# Altium schematic symbol library WA-SMSI_M3 Thread Internal.SchLib: 34 symbols
Pins are listed as number, name and electrical type; pins without a type are passive.

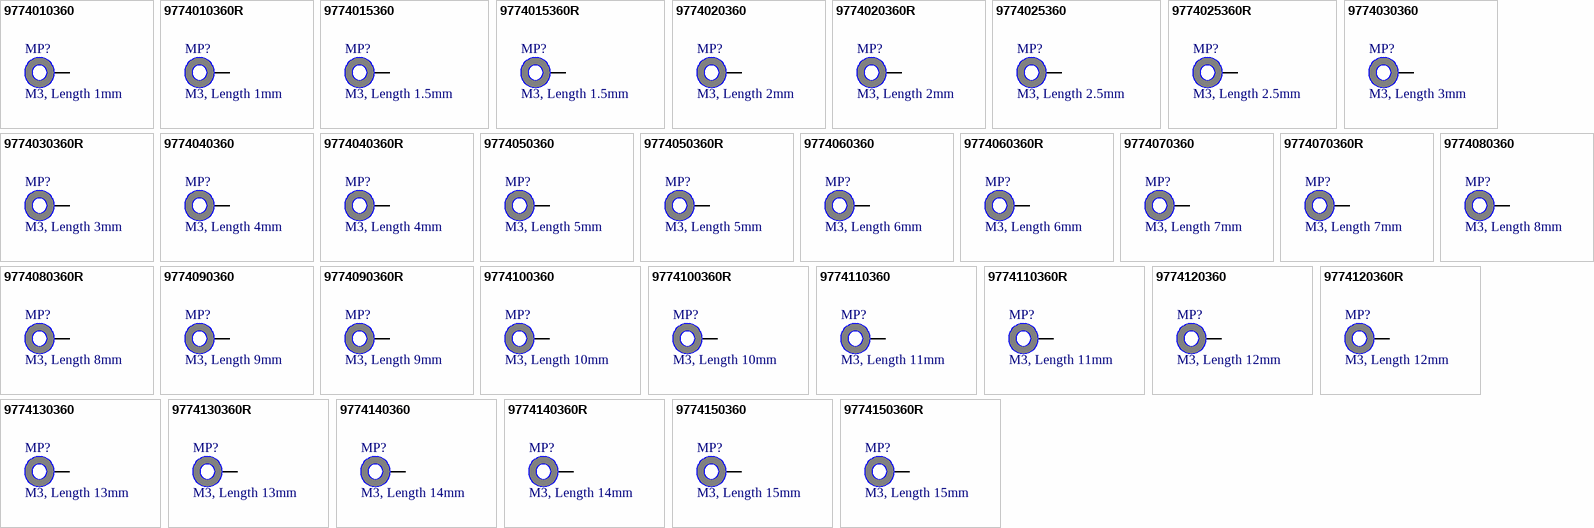
[diagram p0: symbols 9774010360 to 9774150360R]

## 9774010360
designator MP?, comment M3, Length 1mm
WA-SMSI SMT Steel Spacer, M3 Thread Internal, Length 1mm; PartNumber: 9774010360; InnerDiameter: 4.2mm; OuterDiameter: 6mm; PublishedDate: Dec. 2016; Publisher: Wurth Elektronik; ComponentLink1Description: Manufacturer; ComponentLink1URL: http://www.we-online.de; ComponentLink2Description: Datasheet; ComponentLink2URL: http://katalog.we-online.de/em/datasheet/9774010360.pdf; Length: 1mm; Thread: M3; Packaging: Bulk
footprint 9774010360
pins: 1

## 9774010360R
designator MP?, comment M3, Length 1mm
WA-SMSI SMT Steel Spacer, M3 Thread Internal, Length 1mm; PartNumber: 9774010360R; InnerDiameter: 4.2mm; OuterDiameter: 6mm; PublishedDate: Dec. 2016; Publisher: Wurth Elektronik; ComponentLink1Description: Manufacturer; ComponentLink1URL: http://www.we-online.de; ComponentLink2Description: Datasheet; ComponentLink2URL: http://katalog.we-online.de/em/datasheet/9774010360R.pdf; Length: 1mm; Thread: M3; Packaging: Tape and Reel
footprint 9774010360
pins: 1

## 9774015360
designator MP?, comment M3, Length 1.5mm
WA-SMSI SMT Steel Spacer, M3 Thread Internal, Length 1.5mm; PartNumber: 9774015360; InnerDiameter: 4.2mm; OuterDiameter: 6mm; PublishedDate: Dec. 2016; Publisher: Wurth Elektronik; ComponentLink1Description: Manufacturer; ComponentLink1URL: http://www.we-online.de; ComponentLink2Description: Datasheet; ComponentLink2URL: http://katalog.we-online.de/em/datasheet/9774015360.pdf; Length: 1.5mm; Thread: M3; Packaging: Bulk
footprint 9774015360
pins: 1

## 9774015360R
designator MP?, comment M3, Length 1.5mm
WA-SMSI SMT Steel Spacer, M3 Thread Internal, Length 1.5mm; PartNumber: 9774015360R; InnerDiameter: 4.2mm; OuterDiameter: 6mm; PublishedDate: Dec. 2016; Publisher: Wurth Elektronik; ComponentLink1Description: Manufacturer; ComponentLink1URL: http://www.we-online.de; ComponentLink2Description: Datasheet; ComponentLink2URL: http://katalog.we-online.de/em/datasheet/9774015360R.pdf; Length: 1.5mm; Thread: M3; Packaging: Tape and Reel
footprint 9774015360
pins: 1

## 9774020360
designator MP?, comment M3, Length 2mm
WA-SMSI SMT Steel Spacer, M3 Thread Internal, Length 2mm; PartNumber: 9774020360; InnerDiameter: 4.2mm; OuterDiameter: 6mm; PublishedDate: Dec. 2016; Publisher: Wurth Elektronik; ComponentLink1Description: Manufacturer; ComponentLink1URL: http://www.we-online.de; ComponentLink2Description: Datasheet; ComponentLink2URL: http://katalog.we-online.de/em/datasheet/9774020360.pdf; Length: 2mm; Thread: M3; Packaging: Bulk
footprint 9774020360
pins: 1

## 9774020360R
designator MP?, comment M3, Length 2mm
WA-SMSI SMT Steel Spacer, M3 Thread Internal, Length 2mm; PartNumber: 9774020360R; InnerDiameter: 4.2mm; OuterDiameter: 6mm; PublishedDate: Dec. 2016; Publisher: Wurth Elektronik; ComponentLink1Description: Manufacturer; ComponentLink1URL: http://www.we-online.de; ComponentLink2Description: Datasheet; ComponentLink2URL: http://katalog.we-online.de/em/datasheet/9774020360R.pdf; Length: 2mm; Thread: M3; Packaging: Tape and Reel
footprint 9774020360
pins: 1

## 9774025360
designator MP?, comment M3, Length 2.5mm
WA-SMSI SMT Steel Spacer, M3 Thread Internal, Length 2.5mm; PartNumber: 9774025360; InnerDiameter: 4.2mm; OuterDiameter: 6mm; PublishedDate: Dec. 2016; Publisher: Wurth Elektronik; ComponentLink1Description: Manufacturer; ComponentLink1URL: http://www.we-online.de; ComponentLink2Description: Datasheet; ComponentLink2URL: http://katalog.we-online.de/em/datasheet/9774025360.pdf; Length: 2.5mm; Thread: M3; Packaging: Bulk
footprint 9774025360
pins: 1

## 9774025360R
designator MP?, comment M3, Length 2.5mm
WA-SMSI SMT Steel Spacer, M3 Thread Internal, Length 2.5mm; PartNumber: 9774025360R; InnerDiameter: 4.2mm; OuterDiameter: 6mm; PublishedDate: Dec. 2016; Publisher: Wurth Elektronik; ComponentLink1Description: Manufacturer; ComponentLink1URL: http://www.we-online.de; ComponentLink2Description: Datasheet; ComponentLink2URL: http://katalog.we-online.de/em/datasheet/9774025360R.pdf; Length: 2.5mm; Thread: M3; Packaging: Tape and Reel
footprint 9774025360
pins: 1

## 9774030360
designator MP?, comment M3, Length 3mm
WA-SMSI SMT Steel Spacer, M3 Thread Internal, Length 3mm; PartNumber: 9774030360; InnerDiameter: 4.2mm; OuterDiameter: 6mm; PublishedDate: Dec. 2016; Publisher: Wurth Elektronik; ComponentLink1Description: Manufacturer; ComponentLink1URL: http://www.we-online.de; ComponentLink2Description: Datasheet; ComponentLink2URL: http://katalog.we-online.de/em/datasheet/9774030360.pdf; Length: 3mm; Thread: M3; Packaging: Bulk
footprint 9774030360
pins: 1

## 9774030360R
designator MP?, comment M3, Length 3mm
WA-SMSI SMT Steel Spacer, M3 Thread Internal, Length 3mm; PartNumber: 9774030360R; InnerDiameter: 4.2mm; OuterDiameter: 6mm; PublishedDate: Dec. 2016; Publisher: Wurth Elektronik; ComponentLink1Description: Manufacturer; ComponentLink1URL: http://www.we-online.de; ComponentLink2Description: Datasheet; ComponentLink2URL: http://katalog.we-online.de/em/datasheet/9774030360R.pdf; Length: 3mm; Thread: M3; Packaging: Tape and Reel
footprint 9774030360
pins: 1

## 9774040360
designator MP?, comment M3, Length 4mm
WA-SMSI SMT Steel Spacer, M3 Thread Internal, Length 4mm; PartNumber: 9774040360; InnerDiameter: 4.2mm; OuterDiameter: 6mm; PublishedDate: Dec. 2016; Publisher: Wurth Elektronik; ComponentLink1Description: Manufacturer; ComponentLink1URL: http://www.we-online.de; ComponentLink2Description: Datasheet; ComponentLink2URL: http://katalog.we-online.de/em/datasheet/9774040360.pdf; Length: 4mm; Thread: M3; Packaging: Bulk
footprint 9774040360
pins: 1

## 9774040360R
designator MP?, comment M3, Length 4mm
WA-SMSI SMT Steel Spacer, M3 Thread Internal, Length 4mm; PartNumber: 9774040360R; InnerDiameter: 4.2mm; OuterDiameter: 6mm; PublishedDate: Dec. 2016; Publisher: Wurth Elektronik; ComponentLink1Description: Manufacturer; ComponentLink1URL: http://www.we-online.de; ComponentLink2Description: Datasheet; ComponentLink2URL: http://katalog.we-online.de/em/datasheet/9774040360R.pdf; Length: 4mm; Thread: M3; Packaging: Tape and Reel
footprint 9774040360
pins: 1

## 9774050360
designator MP?, comment M3, Length 5mm
WA-SMSI SMT Steel Spacer, M3 Thread Internal, Length 5mm; PartNumber: 9774050360; InnerDiameter: 4.2mm; OuterDiameter: 6mm; PublishedDate: Dec. 2016; Publisher: Wurth Elektronik; ComponentLink1Description: Manufacturer; ComponentLink1URL: http://www.we-online.de; ComponentLink2Description: Datasheet; ComponentLink2URL: http://katalog.we-online.de/em/datasheet/9774050360.pdf; Length: 5mm; Thread: M3; Packaging: Bulk
footprint 9774050360
pins: 1

## 9774050360R
designator MP?, comment M3, Length 5mm
WA-SMSI SMT Steel Spacer, M3 Thread Internal, Length 5mm; PartNumber: 9774050360R; InnerDiameter: 4.2mm; OuterDiameter: 6mm; PublishedDate: Dec. 2016; Publisher: Wurth Elektronik; ComponentLink1Description: Manufacturer; ComponentLink1URL: http://www.we-online.de; ComponentLink2Description: Datasheet; ComponentLink2URL: http://katalog.we-online.de/em/datasheet/9774050360R.pdf; Length: 5mm; Thread: M3; Packaging: Tape and Reel
footprint 9774050360
pins: 1

## 9774060360
designator MP?, comment M3, Length 6mm
WA-SMSI SMT Steel Spacer, M3 Thread Internal, Length 6mm; PartNumber: 9774060360; InnerDiameter: 4.2mm; PublishedDate: Dec. 2016; Publisher: Wurth Elektronik; ComponentLink1Description: Manufacturer; ComponentLink1URL: http://www.we-online.de; ComponentLink2Description: Datasheet; ComponentLink2URL: http://katalog.we-online.de/em/datasheet/9774060360.pdf; Length: 6mm; OuterDiameter: 6mm; Thread: M3; Packaging: Bulk
footprint 9774060360
pins: 1

## 9774060360R
designator MP?, comment M3, Length 6mm
WA-SMSI SMT Steel Spacer, M3 Thread Internal, Length 6mm; PartNumber: 9774060360R; InnerDiameter: 4.2mm; PublishedDate: Dec. 2016; Publisher: Wurth Elektronik; ComponentLink1Description: Manufacturer; ComponentLink1URL: http://www.we-online.de; ComponentLink2Description: Datasheet; ComponentLink2URL: http://katalog.we-online.de/em/datasheet/9774060360R.pdf; Length: 6mm; OuterDiameter: 6mm; Thread: M3; Packaging: Tape and Reel
footprint 9774060360
pins: 1

## 9774070360
designator MP?, comment M3, Length 7mm
WA-SMSI SMT Steel Spacer, M3 Thread Internal, Length 7mm; PartNumber: 9774070360; InnerDiameter: 4.2mm; OuterDiameter: 6mm; PublishedDate: Dec. 2016; Publisher: Wurth Elektronik; ComponentLink1Description: Manufacturer; ComponentLink1URL: http://www.we-online.de; ComponentLink2Description: Datasheet; ComponentLink2URL: http://katalog.we-online.de/em/datasheet/9774070360.pdf; Length: 7mm; Thread: M3; Packaging: Bulk
footprint 9774070360
pins: 1

## 9774070360R
designator MP?, comment M3, Length 7mm
WA-SMSI SMT Steel Spacer, M3 Thread Internal, Length 7mm; PartNumber: 9774070360R; InnerDiameter: 4.2mm; OuterDiameter: 6mm; PublishedDate: Dec. 2016; Publisher: Wurth Elektronik; ComponentLink1Description: Manufacturer; ComponentLink1URL: http://www.we-online.de; ComponentLink2Description: Datasheet; ComponentLink2URL: http://katalog.we-online.de/em/datasheet/9774070360R.pdf; Length: 7mm; Thread: M3; Packaging: Tape and Reel
footprint 9774070360
pins: 1

## 9774080360
designator MP?, comment M3, Length 8mm
WA-SMSI SMT Steel Spacer, M3 Thread Internal, Length 8mm; PartNumber: 9774080360; InnerDiameter: 4.2mm; OuterDiameter: 6mm; PublishedDate: Dec. 2016; Publisher: Wurth Elektronik; ComponentLink1Description: Manufacturer; ComponentLink1URL: http://www.we-online.de; ComponentLink2Description: Datasheet; ComponentLink2URL: http://katalog.we-online.de/em/datasheet/9774080360.pdf; Length: 8mm; Thread: M3; Packaging: Bulk
footprint 9774080360
pins: 1

## 9774080360R
designator MP?, comment M3, Length 8mm
WA-SMSI SMT Steel Spacer, M3 Thread Internal, Length 8mm; PartNumber: 9774080360R; InnerDiameter: 4.2mm; OuterDiameter: 6mm; PublishedDate: Dec. 2016; Publisher: Wurth Elektronik; ComponentLink1Description: Manufacturer; ComponentLink1URL: http://www.we-online.de; ComponentLink2Description: Datasheet; ComponentLink2URL: http://katalog.we-online.de/em/datasheet/9774080360R.pdf; Length: 8mm; Thread: M3; Packaging: Tape and Reel
footprint 9774080360
pins: 1

## 9774090360
designator MP?, comment M3, Length 9mm
WA-SMSI SMT Steel Spacer, M3 Thread Internal, Length 9mm; PartNumber: 9774090360; InnerDiameter: 4.2mm; OuterDiameter: 6mm; PublishedDate: Dec. 2016; Publisher: Wurth Elektronik; ComponentLink1Description: Manufacturer; ComponentLink1URL: http://www.we-online.de; ComponentLink2Description: Datasheet; ComponentLink2URL: http://katalog.we-online.de/em/datasheet/9774090360.pdf; Length: 9mm; Thread: M3; Packaging: Bulk
footprint 9774090360
pins: 1

## 9774090360R
designator MP?, comment M3, Length 9mm
WA-SMSI SMT Steel Spacer, M3 Thread Internal, Length 9mm; PartNumber: 9774090360R; InnerDiameter: 4.2mm; OuterDiameter: 6mm; PublishedDate: Dec. 2016; Publisher: Wurth Elektronik; ComponentLink1Description: Manufacturer; ComponentLink1URL: http://www.we-online.de; ComponentLink2Description: Datasheet; ComponentLink2URL: http://katalog.we-online.de/em/datasheet/9774090360R.pdf; Length: 9mm; Thread: M3; Packaging: Tape and Reel
footprint 9774090360
pins: 1

## 9774100360
designator MP?, comment M3, Length 10mm
WA-SMSI SMT Steel Spacer, M3 Thread Internal, Length 10mm; PartNumber: 9774100360; InnerDiameter: 4.2mm; OuterDiameter: 6mm; PublishedDate: Dec. 2016; Publisher: Wurth Elektronik; ComponentLink1Description: Manufacturer; ComponentLink1URL: http://www.we-online.de; ComponentLink2Description: Datasheet; ComponentLink2URL: http://katalog.we-online.de/em/datasheet/9774100360.pdf; Length: 10mm; Thread: M3; Packaging: Bulk
footprint 9774100360
pins: 1

## 9774100360R
designator MP?, comment M3, Length 10mm
WA-SMSI SMT Steel Spacer, M3 Thread Internal, Length 10mm; PartNumber: 9774100360R; InnerDiameter: 4.2mm; OuterDiameter: 6mm; PublishedDate: Dec. 2016; Publisher: Wurth Elektronik; ComponentLink1Description: Manufacturer; ComponentLink1URL: http://www.we-online.de; ComponentLink2Description: Datasheet; ComponentLink2URL: http://katalog.we-online.de/em/datasheet/9774100360R.pdf; Length: 10mm; Thread: M3; Packaging: Tape and Reel
footprint 9774100360
pins: 1

## 9774110360
designator MP?, comment M3, Length 11mm
WA-SMSI SMT Steel Spacer, M3 Thread Internal, Length 11mm; PartNumber: 9774110360; InnerDiameter: 4.2mm; OuterDiameter: 6mm; PublishedDate: Dec. 2016; Publisher: Wurth Elektronik; ComponentLink1Description: Manufacturer; ComponentLink1URL: http://www.we-online.de; ComponentLink2Description: Datasheet; ComponentLink2URL: http://katalog.we-online.de/em/datasheet/9774110360.pdf; Length: 11mm; Thread: M3; Packaging: Bulk
footprint 9774110360
pins: 1

## 9774110360R
designator MP?, comment M3, Length 11mm
WA-SMSI SMT Steel Spacer, M3 Thread Internal, Length 11mm; PartNumber: 9774110360R; InnerDiameter: 4.2mm; OuterDiameter: 6mm; PublishedDate: Dec. 2016; Publisher: Wurth Elektronik; ComponentLink1Description: Manufacturer; ComponentLink1URL: http://www.we-online.de; ComponentLink2Description: Datasheet; ComponentLink2URL: http://katalog.we-online.de/em/datasheet/9774110360R.pdf; Length: 11mm; Thread: M3; Packaging: Tape and Reel
footprint 9774110360
pins: 1

## 9774120360
designator MP?, comment M3, Length 12mm
WA-SMSI SMT Steel Spacer, M3 Thread Internal, Length 12mm; PartNumber: 9774120360; InnerDiameter: 4.2mm; OuterDiameter: 6mm; PublishedDate: Dec. 2016; Publisher: Wurth Elektronik; ComponentLink1Description: Manufacturer; ComponentLink1URL: http://www.we-online.de; ComponentLink2Description: Datasheet; ComponentLink2URL: http://katalog.we-online.de/em/datasheet/9774120360.pdf; Length: 12mm; Thread: M3; Packaging: Bulk
footprint 9774120360
pins: 1

## 9774120360R
designator MP?, comment M3, Length 12mm
WA-SMSI SMT Steel Spacer, M3 Thread Internal, Length 12mm; PartNumber: 9774120360R; InnerDiameter: 4.2mm; OuterDiameter: 6mm; PublishedDate: Dec. 2016; Publisher: Wurth Elektronik; ComponentLink1Description: Manufacturer; ComponentLink1URL: http://www.we-online.de; ComponentLink2Description: Datasheet; ComponentLink2URL: http://katalog.we-online.de/em/datasheet/9774120360R.pdf; Length: 12mm; Thread: M3; Packaging: Tape and Reel
footprint 9774120360
pins: 1

## 9774130360
designator MP?, comment M3, Length 13mm
WA-SMSI SMT Steel Spacer, M3 Thread Internal, Length 13mm; PartNumber: 9774130360; InnerDiameter: 4.2mm; OuterDiameter: 6mm; PublishedDate: Dec. 2016; Publisher: Wurth Elektronik; ComponentLink1Description: Manufacturer; ComponentLink1URL: http://www.we-online.de; ComponentLink2Description: Datasheet; ComponentLink2URL: http://katalog.we-online.de/em/datasheet/9774130360.pdf; Length: 13mm; Thread: M3; Packaging: Bulk
footprint 9774130360
pins: 1

## 9774130360R
designator MP?, comment M3, Length 13mm
WA-SMSI SMT Steel Spacer, M3 Thread Internal, Length 13mm; PartNumber: 9774130360R; InnerDiameter: 4.2mm; OuterDiameter: 6mm; PublishedDate: Dec. 2016; Publisher: Wurth Elektronik; ComponentLink1Description: Manufacturer; ComponentLink1URL: http://www.we-online.de; ComponentLink2Description: Datasheet; ComponentLink2URL: http://katalog.we-online.de/em/datasheet/9774130360R.pdf; Length: 13mm; Thread: M3; Packaging: Tape and Reel
footprint 9774130360
pins: 1

## 9774140360
designator MP?, comment M3, Length 14mm
WA-SMSI SMT Steel Spacer, M3 Thread Internal, Length 14mm; PartNumber: 9774140360; InnerDiameter: 4.2mm; OuterDiameter: 6mm; PublishedDate: Dec. 2016; Publisher: Wurth Elektronik; ComponentLink1Description: Manufacturer; ComponentLink1URL: http://www.we-online.de; ComponentLink2Description: Datasheet; ComponentLink2URL: http://katalog.we-online.de/em/datasheet/9774140360.pdf; Length: 14mm; Thread: M3; Packaging: Bulk
footprint 9774140360
pins: 1

## 9774140360R
designator MP?, comment M3, Length 14mm
WA-SMSI SMT Steel Spacer, M3 Thread Internal, Length 14mm; PartNumber: 9774140360R; InnerDiameter: 4.2mm; OuterDiameter: 6mm; PublishedDate: Dec. 2016; Publisher: Wurth Elektronik; ComponentLink1Description: Manufacturer; ComponentLink1URL: http://www.we-online.de; ComponentLink2Description: Datasheet; ComponentLink2URL: http://katalog.we-online.de/em/datasheet/9774140360R.pdf; Length: 14mm; Thread: M3; Packaging: Tape and Reel
footprint 9774140360
pins: 1

## 9774150360
designator MP?, comment M3, Length 15mm
WA-SMSI SMT Steel Spacer, M3 Thread Internal, Length 15mm; PartNumber: 9774150360; InnerDiameter: 4.2mm; OuterDiameter: 6mm; PublishedDate: Dec. 2016; Publisher: Wurth Elektronik; ComponentLink1Description: Manufacturer; ComponentLink1URL: http://www.we-online.de; ComponentLink2Description: Datasheet; ComponentLink2URL: http://katalog.we-online.de/em/datasheet/9774150360.pdf; Length: 15mm; Thread: M3; Packaging: Bulk
footprint 9774150360
pins: 1

## 9774150360R
designator MP?, comment M3, Length 15mm
WA-SMSI SMT Steel Spacer, M3 Thread Internal, Length 15mm; PartNumber: 9774150360R; InnerDiameter: 4.2mm; OuterDiameter: 6mm; PublishedDate: Dec. 2016; Publisher: Wurth Elektronik; ComponentLink1Description: Manufacturer; ComponentLink1URL: http://www.we-online.de; ComponentLink2Description: Datasheet; ComponentLink2URL: http://katalog.we-online.de/em/datasheet/9774150360R.pdf; Length: 15mm; Thread: M3; Packaging: Tape and Reel
footprint 9774150360
pins: 1